# Altium footprint library PcbLib1.PcbLib: 8 footprints
Each footprint in its own frame and in the unit in brackets; x right, y up, seen from the top. Pads: shape width x height; smd on the part's side, far side on the other; paste and mask are expansions set on the pad; w line width, h text height; cw(c..) or ccw(c..) is an arc to the next point about the centre after c.
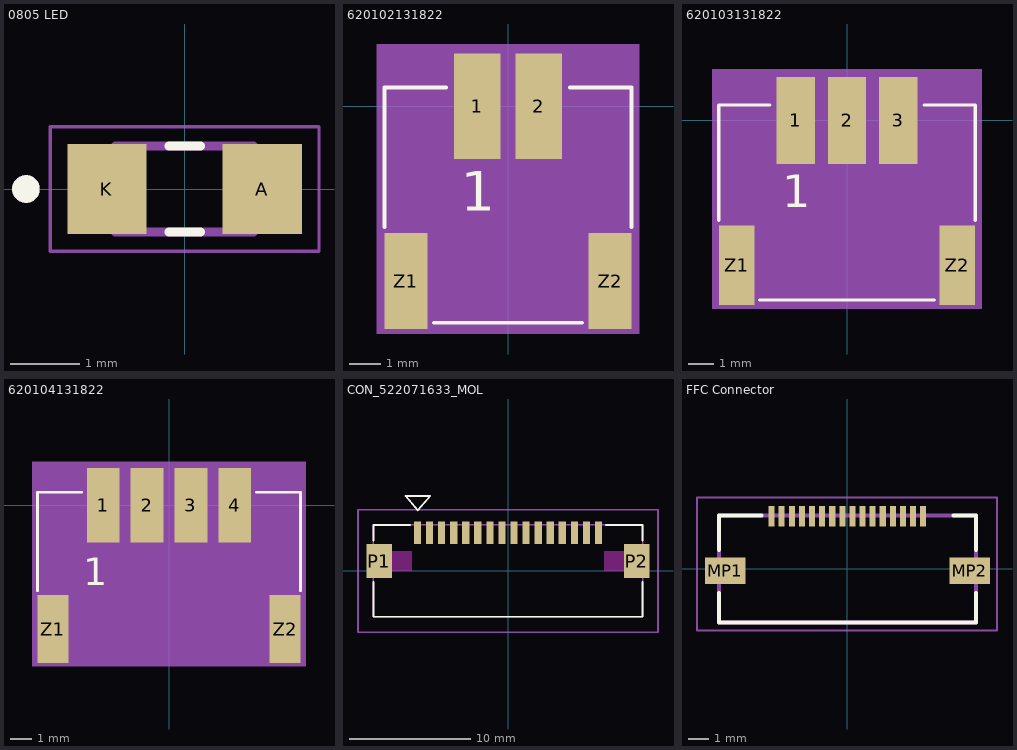
[diagram p0: the footprints below, top view; thin cyan lines are the x and y axes]

## 0805 LED [mm]
pads (2):
  rect 1.15x1.3 smd: A(1.125,0) K(-1.125,0)
Top Overlay:
  circle w0.2: c-2.3,0 r0.1
  lines w0.127: -0.23,-0.625 0.23,-0.625 ; -0.23,0.625 0.23,0.625
Mechanical 13:
  circle w0.2: c-2.3,0 r0.1
  lines w0.127: -1,-0.625 1,-0.625 1,0.625 -1,0.625 -1,-0.625
Mechanical 15:
  lines w0.05: -1.95,-0.9 1.95,-0.9 1.95,0.9 -1.95,0.9 -1.95,-0.9
3D body "step_temp.STEP": height 0.73, standoff 0, extent -1.003,-0.622 1.003,0.622

## 620102131822 [mm]
pads (4):
  rect 1.5x3.4 smd: 1(-1,0) 2(1,0)
  rect 1.4x3.1 smd: Z1(-3.3,-5.65) Z2(3.3,-5.65)
Top Overlay:
  lines w0.127: -4,-3.9 -4,0.6 -2,0.6 ; -2.4,-7 2.4,-7 ; 2,0.6 4,0.6 4,-3.9
  text "1" at -1.52,-3.385 h1.27
Mechanical 13:
  lines w0.127: -4,-7 4,-7 4,0.6 -4,0.6 -4,-7
  text "1" at -1.52,-3.385 h1.27
Mechanical 15:
  region: 4.25,-7.35 -4.25,-7.35 -4.25,2 4.25,2
3D body "620102131822.stp": height 5.54, standoff -0.04, extent -4,-6.937 4,1.663

## 620103131822 [mm]
pads (5):
  rect 1.5x3.4 smd: 1(-2,0) 2(0,0) 3(2,0)
  rect 1.4x3.1 smd: Z1(-4.3,-5.65) Z2(4.3,-5.65)
Top Overlay:
  lines w0.127: -5,-3.9 -5,0.6 -3,0.6 ; -3.4,-7 3.4,-7 ; 3,0.6 5,0.6 5,-3.9
  text "1" at -2.52,-3.385 h1.27
Mechanical 13:
  lines w0.127: -5,-7 -5,0.6 5,0.6 5,-7 -5,-7
  text "1" at -2.52,-3.385 h1.27
Mechanical 15:
  region: 5.25,-7.35 -5.25,-7.35 -5.25,2 5.25,2
3D body "620103131822.stp": height 5.92, standoff 0.35, extent -4.873,-7.191 5.127,1.409

## 620104131822 [mm]
pads (6):
  rect 1.5x3.4 smd: 1(-3,0) 2(-1,0) 3(1,0) 4(3,0)
  rect 1.4x3.1 smd: Z1(-5.3,-5.65) Z2(5.3,-5.65)
Top Overlay:
  lines w0.127: -6,-3.9 -6,0.6 -4,0.6 ; 4,0.6 6,0.6 6,-3.9
  text "1" at -3.905,-3.635 h1.27
Mechanical 13:
  lines w0.127: -6,-7 6,-7 6,0.6 -6,0.6 -6,-7
  text "1" at -3.905,-3.635 h1.27
Mechanical 15:
  region: 6.25,-7.35 -6.25,-7.35 -6.25,2 6.25,2
3D body "620104131822.stp": height 5.54, standoff -0.04, extent -6,-7.112 6,1.488

## CON_522071633_MOL [mm]
pads (18):
  rect 0.6x1.9 smd paste+0 mask+0.076: 1(-7.5,3.15) 2(-6.5,3.15) 3(-5.5,3.15) 4(-4.5,3.15) 5(-3.5,3.15) 6(-2.5,3.15) 7(-1.5,3.15) 8(-0.5,3.15) 9(0.5,3.15) 10(1.5,3.15) 11(2.5,3.15) 12(3.5,3.15) 13(4.5,3.15) 14(5.5,3.15) 15(6.5,3.15) 16(7.5,3.15)
  rect 2.1x2.8 smd paste+0 mask+0.076: P1(-10.65,0.8) P2(10.65,0.8)
Top Overlay:
  lines w0.152: -11.15,-0.918 -11.15,-3.8 11.15,-3.8 11.15,-0.918 ; -11.15,2.517 -11.15,3.8 -8.117,3.8 ; 8.118,3.8 11.15,3.8 11.15,2.517 ; -8.483,6.198 -7.467,5.004 -6.451,6.198 -8.483,6.198
Keep-Out Layer:
  region: 7.95,0 7.95,1.6 9.6,1.6 9.6,0
  region: -7.95,0 -7.95,1.6 -9.6,1.6 -9.6,0
Mechanical 13:
  lines w0.127: -11.15,-3.8 -11.15,3.8 11.15,3.8 11.15,-3.8 -11.15,-3.8 ; -8.483,6.198 -7.467,5.004 -6.451,6.198 -8.483,6.198
Mechanical 15:
  lines w0.127: -12.42,-5.07 12.42,-5.07 12.42,5.07 -12.42,5.07 -12.42,-5.07
3D body "522071633.stp": height 2.75, standoff 0.05, extent -11.023,-3.435 11.277,4.165

## FFC2 [mm]

## FFC Connector [mm]
pads (18):
  rect 0.3x1 smd: 1(-3.75,2.6) 2(-3.25,2.6) 3(-2.75,2.6) 4(-2.25,2.6) 5(-1.75,2.6) 6(-1.25,2.6) 7(-0.75,2.6) 8(-0.25,2.6) 9(0.25,2.6) 10(0.75,2.6) 11(1.25,2.6) 12(1.75,2.6) 13(2.25,2.6) 14(2.75,2.6) 15(3.25,2.6) 16(3.75,2.6)
  rect 2x1.3 smd: MP1(-6.05,-0.1) MP2(6.05,-0.1)
Top Overlay:
  lines w0.2: -6.35,-1.197 -6.35,-2.65 6.35,-2.65 6.35,-1.197 ; -6.35,0.945 -6.35,2.65 -4.252,2.65 ; 5.252,2.65 6.35,2.65 6.35,0.945
Mechanical 13:
  lines w0.2: -6.35,-2.65 6.35,-2.65 6.35,2.65 -6.35,2.65 -6.35,-2.65
Mechanical 15:
  lines w0.1: -7.44,-3.05 7.4,-3.05 7.4,3.53 -7.44,3.53 -7.44,-3.05
3D body "505110-1692.stp": height 1.9, standoff 0, extent -6.75,-2.53 6.75,2.77

## PCBComponent_1 - duplicate [mm]